# Altium footprint library 043650-0409-MOLEX4Pin.PcbLib: 1 footprints
Each footprint in its own frame and in the unit in brackets; x right, y up, seen from the top. Pads: shape width x height; smd on the part's side, far side on the other; paste and mask are expansions set on the pad; w line width, h text height; cw(c..) or ccw(c..) is an arc to the next point about the centre after c.
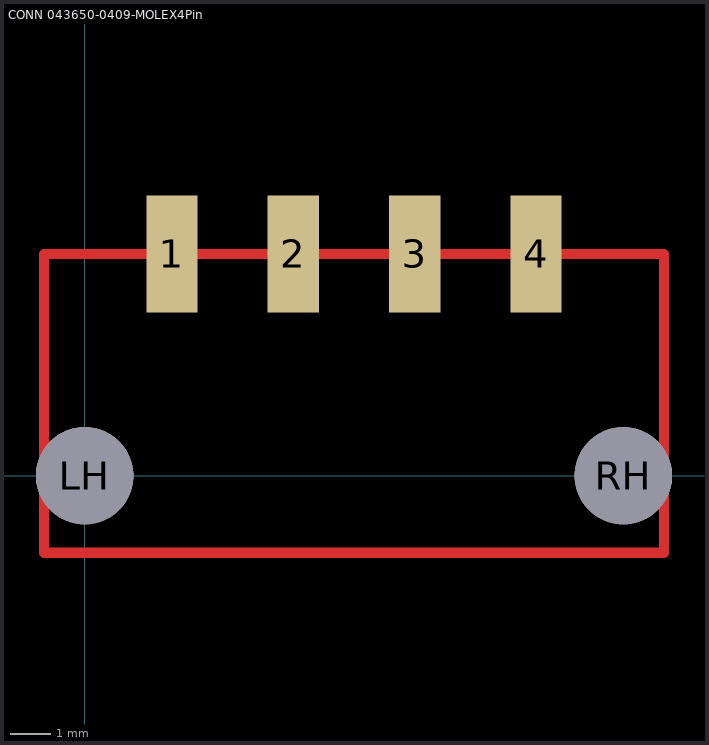
[diagram p0: the footprint, top view; thin cyan lines are the x and y axes]

## CONN 043650-0409-MOLEX4Pin [mm] "MOLEX, 4 Pin"
pads (6):
  rect 1.27x2.9 all layers, no hole: 1(2.16,5.48) 2(5.16,5.48) 3(8.16,5.48) 4(11.16,5.48)
  round 2.41 hole 2.41 unplated: LH(0,0) RH(13.32,0)
Top Layer:
  lines w0.254: -1,-1.905 14.32,-1.905 14.32,5.48 -1,5.48 -1,-1.905